# EAGLE library part TL072 (library LompeOnderdelen)
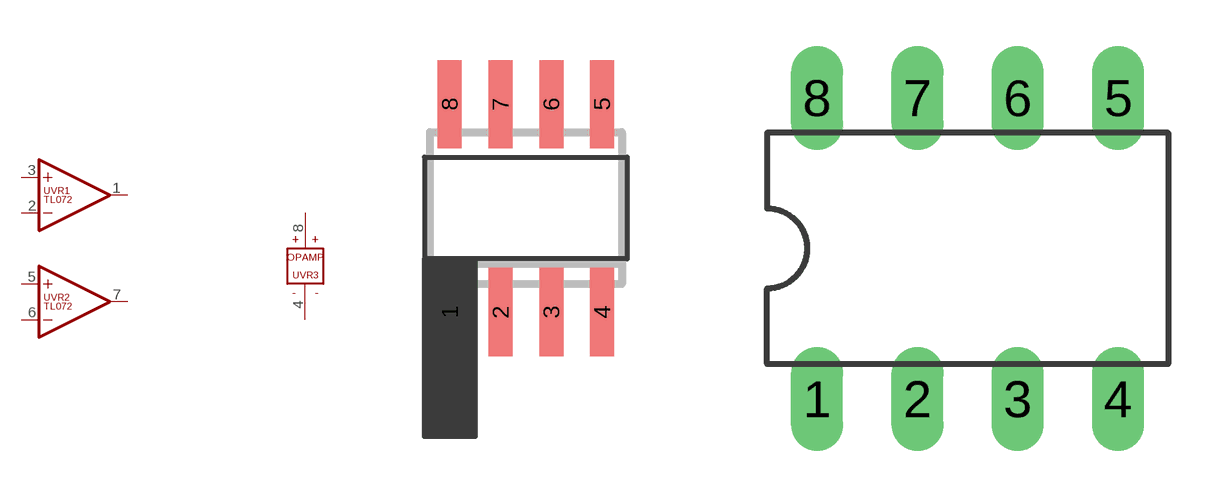
[diagram p0: symbol with the pads of SO08; footprints SO08, DIL08]

Designator prefix -; gates VR1=OPAMP VR2=OPAMP VR3=PWR+-

## TL072  [SO08]
1  VR1:OUT  out
2  VR1:-IN  in
3  VR1:+IN  in
4  VR3:V-  pwr
5  VR2:+IN  in
6  VR2:-IN  in
7  VR2:OUT  out
8  VR3:V+  pwr

## TL072DIP  [DIL08]
Pads as for SO08

## Footprint SO08 (pad centres in mm)
Small Outline Package 8 NS Package M08A
smd 0.6 x 2.2: 1 -1.905,-2.6; 2 -0.635,-2.6; 3 0.635,-2.6; 4 1.905,-2.6; 5 1.905,2.6; 6 0.635,2.6; 7 -0.635,2.6; 8 -1.905,2.6

## Footprint DIL08 (pad centres in mm)
Dual In Line Package
drill 0.813 long: 1 -3.81,-3.81; 2 -1.27,-3.81; 3 1.27,-3.81; 4 3.81,-3.81; 5 3.81,3.81; 6 1.27,3.81; 7 -1.27,3.81; 8 -3.81,3.81